# EAGLE library part S6B-XH (library KylePile)
6 position JST XT balance connector
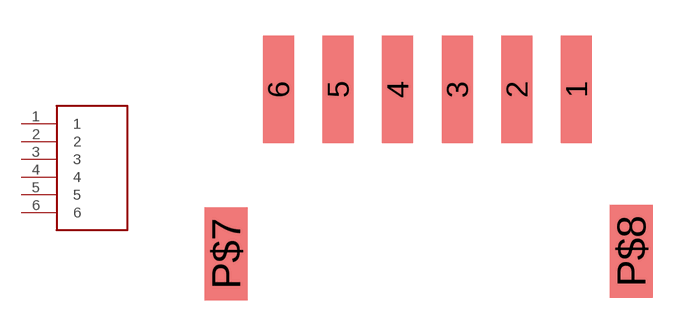
[diagram p27: symbol with the pads of S6B-XH; footprint S6B-XH]

Designator prefix J

## S6B-XH  [S6B-XH]
1  1
2  2
3  3
4  4
5  5
6  6

## Footprint S6B-XH (pad centres in mm)
JST XL 6 position KRP untested 5.28.16 http://www.digikey.com/product-detail/en/jst-sales-america-inc/S6B-XH-SM4-TB(LF)(SN)/455-2264-1-ND/1651062
smd 1.3 x 4.5: 1 12.5,0; 2 10,0; 3 7.5,0; 4 5,0; 5 2.5,0; 6 0,0
smd 1.8 x 3.9: P$7 -2.2,-6.9; P$8 14.8,-6.8